# Altium footprint library L03020.PcbLib: 1 footprints
Each footprint in its own frame and in the unit in brackets; x right, y up, seen from the top. Pads: shape width x height; smd on the part's side, far side on the other; paste and mask are expansions set on the pad; w line width, h text height; cw(c..) or ccw(c..) is an arc to the next point about the centre after c.
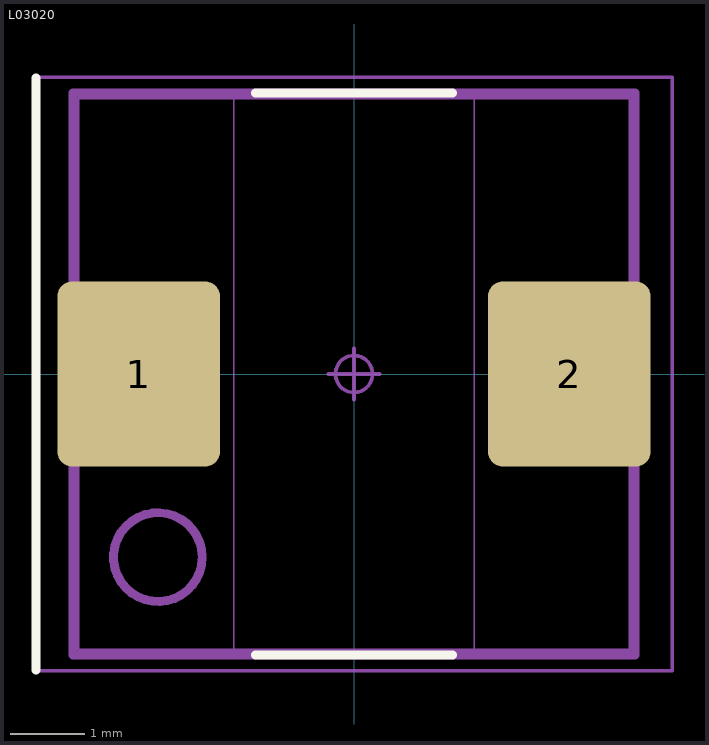
[diagram p0: the footprint, top view; thin cyan lines are the x and y axes]

## L03020 [mm] "Inductor, Chip; 7.45 mm L X 7.45 mm W X 5.80 mm H body"
height 5.8
pads (2):
  rrect18% 2.2x2.5 smd: 1(-2.91,0) 2(2.91,0)
Top Overlay:
  lines w0.12: -4.3,-4 -4.3,4 ; -1.33,-3.8 1.33,-3.8 ; -1.33,3.8 1.33,3.8
Mechanical 13:
  circle w0.12: c-2.65,-2.475 r0.6
  lines w0.12: -3.8,-3.8 -3.8,3.8 3.8,3.8 3.8,-3.8 -3.8,-3.8
  text ".Designator" at -2.667,-0.508 h1.2
Mechanical 15:
  circle w0.05: c0,0 r0.25
  lines w0.05: -0.35,0 0.35,0 ; 0,-0.35 0,0.35 ; -4.3,-4.01 -4.3,4.01 4.3,4.01 4.3,-4.01 -4.3,-4.01
Mechanical 31:
  lines w0.025: -3.725,-3.725 -1.625,-3.725 -1.625,3.725 -3.725,3.725 ; -3.725,-3.725 -3.725,3.725 ; -3.725,-3.725 -3.725,3.725 ; -3.725,-3.725 3.725,-3.725 ; -3.725,3.725 3.725,3.725 ; 3.725,-3.725 3.725,3.725 ; 3.725,-3.725 1.625,-3.725 1.625,3.725 3.725,3.725 ; 3.725,-3.725 3.725,3.725
3D body "INDUCTOR_SPECIAL.step": height 5.8, standoff 0, extent -3.8,-3.8 3.8,3.8